# Altium footprint library A30605-ND-TE8POSHeader.PcbLib: 1 footprints
Each footprint in its own frame and in the unit in brackets; x right, y up, seen from the top. Pads: shape width x height; smd on the part's side, far side on the other; paste and mask are expansions set on the pad; w line width, h text height; cw(c..) or ccw(c..) is an arc to the next point about the centre after c.
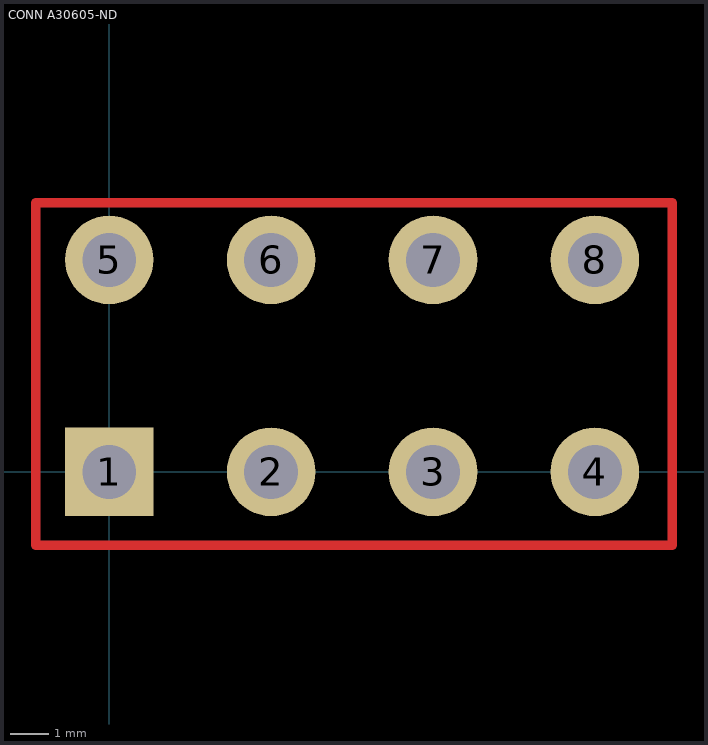
[diagram p0: the footprint, top view; thin cyan lines are the x and y axes]

## CONN A30605-ND [mm] "TE 8 POS Header"
pads (8):
  rect 2.3x2.3 hole 1.4: 1(0,0)
  round 2.3 hole 1.4: 2(4.2,0) 3(8.4,0) 4(12.6,0) 5(0,5.5) 6(4.2,5.5) 7(8.4,5.5) 8(12.6,5.5)
Top Layer:
  lines w0.254: -1.905,-1.905 14.605,-1.905 14.605,6.985 -1.905,6.985 -1.905,-1.905